# EAGLE library part 690367182272 (library Board-to-Board (rev18a))
WR-MM Female Connector without Latch and without Polarization, 22 Pins=>Code : Con_BTB_MM_Female_THT_St_690367182272 <http://katalog.we-online.de/media/thumbs2/eican/thb_Con_BTB_MM_Female_THT_St_69036718xx72_pf2.jpg> Details see: http://katalog.we-online.de/en/em/6903_6718_xx_72 Created 2014-06-04, Karrer Zheng 2014 (C) Würth Elektronik
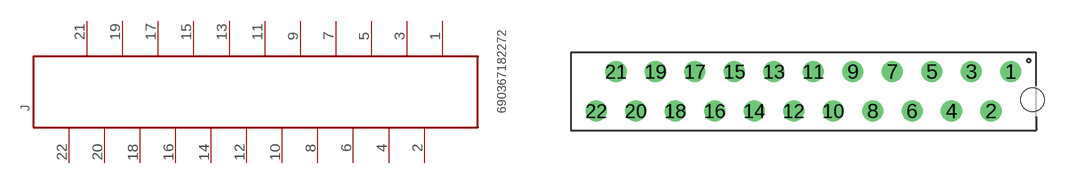
[diagram p335: symbol with the pads of 690367182272; footprint 690367182272]

Designator prefix J

## 690367182272  [690367182272]
1  22  pas
2  21  pas
3  20  pas
4  19  pas
5  18  pas
6  17  pas
7  16  pas
8  15  pas
9  14  pas
10  13  pas
11  12  pas
12  11  pas
13  10  pas
14  9  pas
15  8  pas
16  7  pas
17  6  pas
18  5  pas
19  4  pas
20  3  pas
21  2  pas
22  1  pas

## Footprint 690367182272 (pad centres in mm)
WR-MM Female Connector without Latch and without Polarization, 22 Pins
drill 0.85: 1 13.335,1.27; 2 12.065,-1.27; 3 10.795,1.27; 4 9.525,-1.27; 5 8.255,1.27; 6 6.985,-1.27; 7 5.715,1.27; 8 4.445,-1.27; 9 3.175,1.27; 10 1.905,-1.27; 11 0.635,1.27; 12 -0.635,-1.27; 13 -1.905,1.27; 14 -3.175,-1.27; 15 -4.445,1.27; 16 -5.715,-1.27; 17 -6.985,1.27; 18 -8.255,-1.27; 19 -9.525,1.27; 20 -10.795,-1.27; 21 -12.065,1.27; 22 -13.335,-1.27
hole 1.5 at 14.735,-0.53